# Altium schematic symbol library ACPL-071L-000E.Schlib: 1 symbol
Pins are listed as number, name and electrical type; pins without a type are passive.

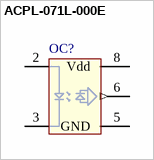
[diagram p0: symbol ACPL-071L-000E]

## ACPL-071L-000E
designator OC?  (value not drawn)
pins: 2 A, 3 K, 5 GND (power), 6 Vo (out), 8 Vdd (power)